# Altium schematic symbol library linux_coreSCHLIB.SchLib: 21 symbols
Pins are listed as number, name and electrical type; pins without a type are passive.

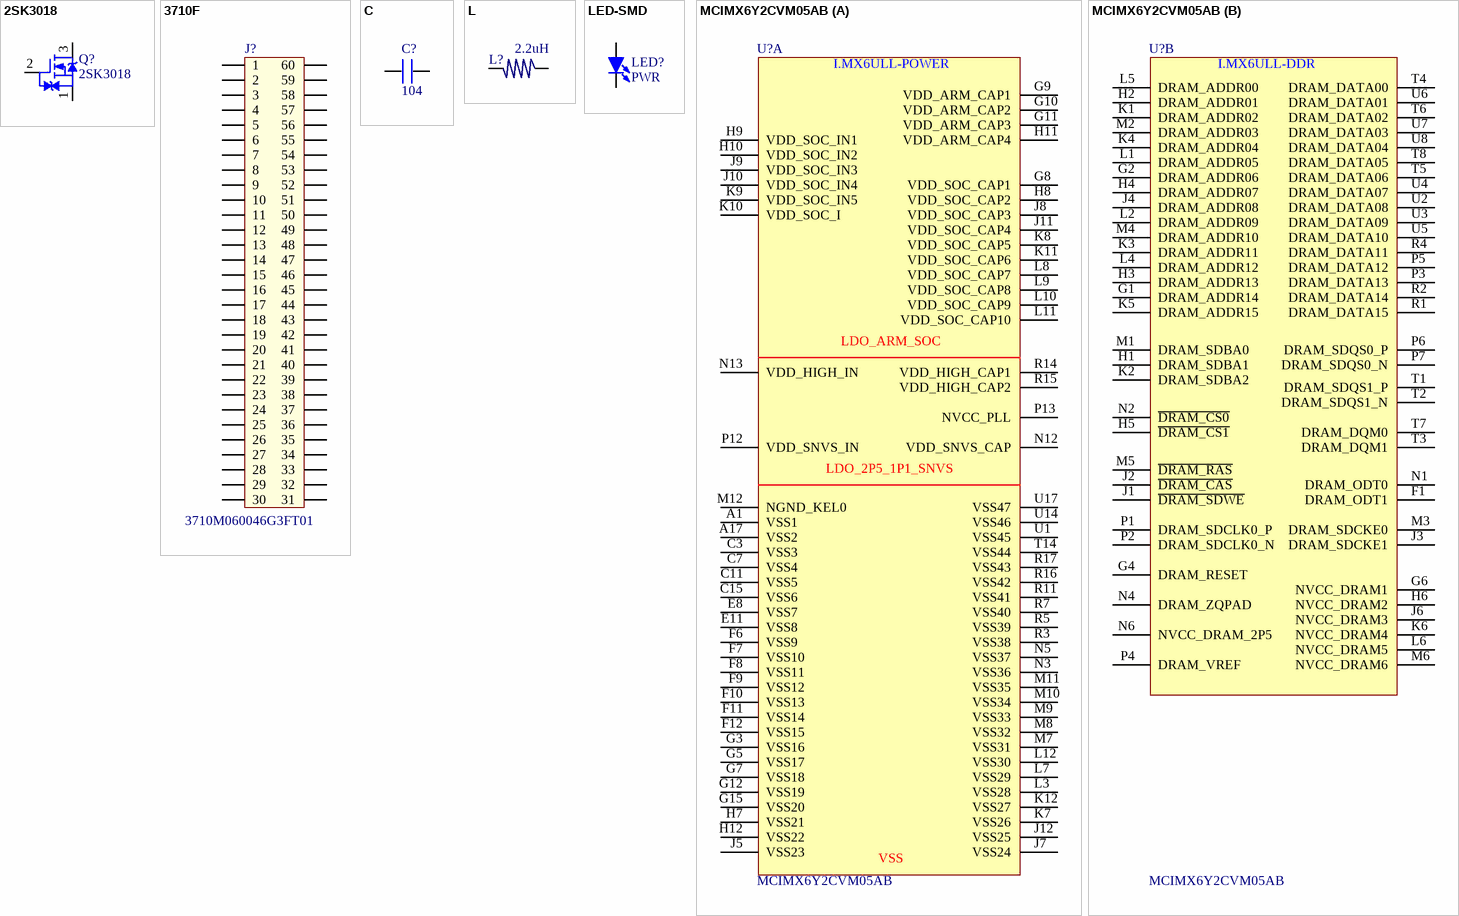
[diagram p0: symbols 2SK3018 to MCIMX6Y2CVM05AB]

## 2SK3018
designator Q?
N沟场效应管  30V,0.1A; 版权归属: 源创客; BOM名称: N沟场效应管; 学习资源: www.ooocke.com
footprint SC70-3L (2x2.2x0.9mm(长宽高))
footprint SC70-3M (2x2.2x0.9mm(长宽高))
footprint SC70-3N (2x2.2x0.9mm(长宽高))
pins: 1 S, 2 G, 3 D

## 3710F
designator J?, comment 3710M060046G3FT01
3710F060046G3FT01
footprint 3710F060046G3FT01 (PIN:0.8mm;SOP;FEMALE)
pins: 1, 2, 3, 4, 5, 6, 7, 8, 9, 10, 11, 12, 13, 14, 15, 16, 17, 18, 19, 20, 21, 22, 23, 24, 25, 26, 27, 28, 29, 30, 31, 32, 33, 34, 35, 36, 37, 38, 39, 40, 41, 42, 43, 44, 45, 46, 47, 48, 49, 50, 51, 52, 53, 54, 55, 56, 57, 58, 59, 60

## C
designator C?, comment 104
footprint 0603P
footprint 0805
footprint CC5.08 (CAP0.1)
footprint CC4.572 (222/332)
footprint 1206
footprint 1210
footprint CC6.096
footprint CC7.62
footprint CVAR (4MM*6.6MM)
footprint 0402
footprint C0402
footprint C 0402
pins: 1, 2

## L
designator L?, comment 2.2uH
footprint L3A (L)
footprint L4.7
footprint L_USER (SELF_DEF)
footprint L10 (10mH)
footprint SMD7850
footprint 0805
footprint 1206
footprint L_SOPL (L_LARGE)
footprint L_CD43 (4mm*4mm)
footprint 0603P
footprint L  9mm x20mm
footprint Lx2 DIP (L=17.5mm  W=15mm  R= 8mm)
footprint NR3015 (3mm*3mm*1.5mm(长*宽*高）)
pins: 1, 2

## LED-SMD
designator LED?, comment PWR
贴片LED; 版权归属: 源创客; BOM名称: 贴片LED; 学习资源: www.ooocke.com
footprint LED 0603W (白色0603LED)
footprint LED 0603R (红色0603LED)
footprint LED 0603B (蓝色0603LED)
footprint LED 0603G (绿色0603LED)
footprint LED 0603Y (黄色0603LED)
footprint LED 0805G (绿色0805LED)
footprint LED 0805R (红色0805LED)
footprint LED 0805B (蓝色0805LED)
footprint LED 0805Y (黄色0805LED)
footprint LED 3528 (白色3528LED)
footprint LED 1206G (绿色1206LED)
footprint LED 5730-V (紫色5730LED)
footprint LED 1206Y (黄色1206LED)
footprint LED 0805W (白色0805LED)
footprint LED 1206B (蓝色1206LED)
footprint LED 1206W (白色1206LED)
footprint LED 1206R (红色1206LED)
pins: 1 A, 2 K

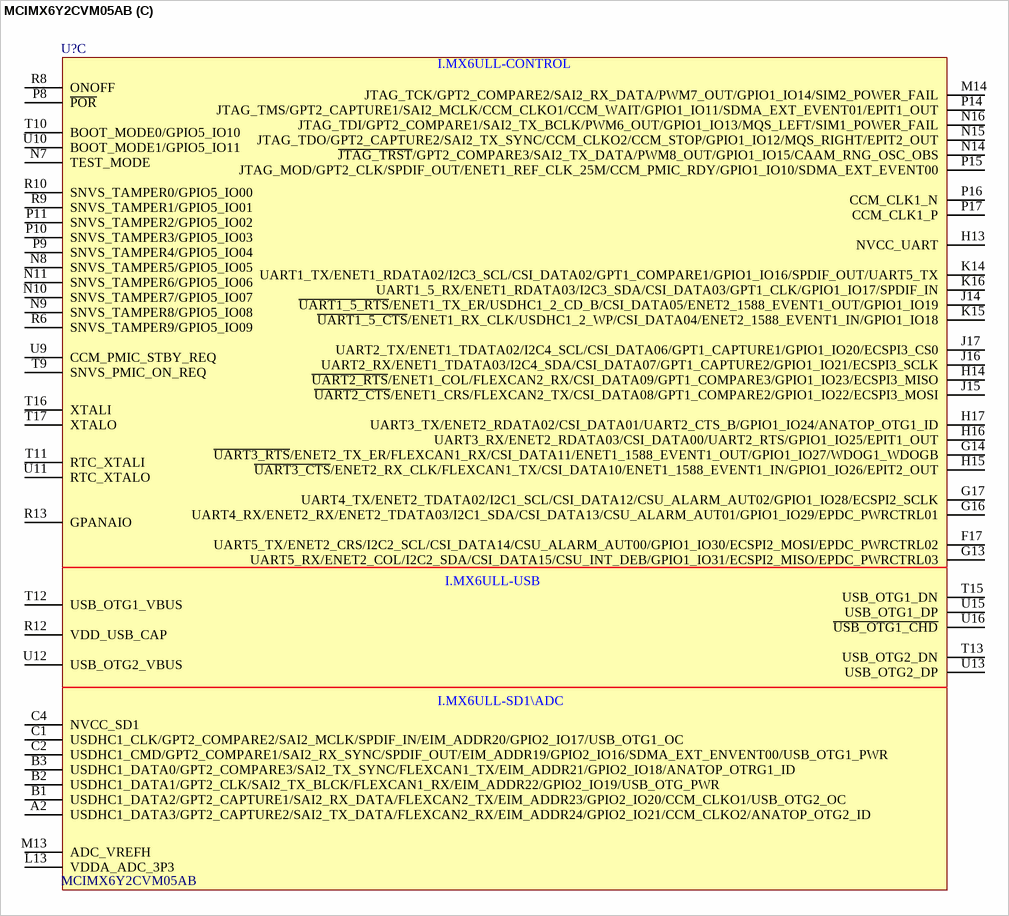
[diagram p1: symbol MCIMX6Y2CVM05AB]

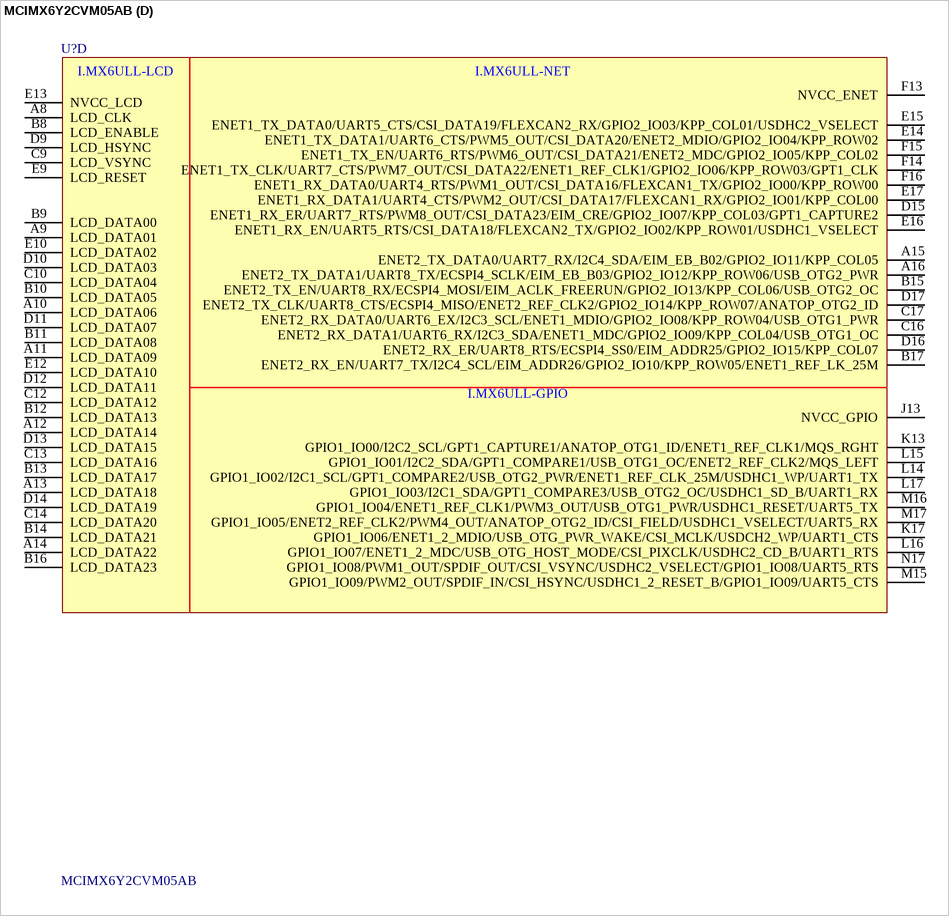
[diagram p2: symbol MCIMX6Y2CVM05AB]

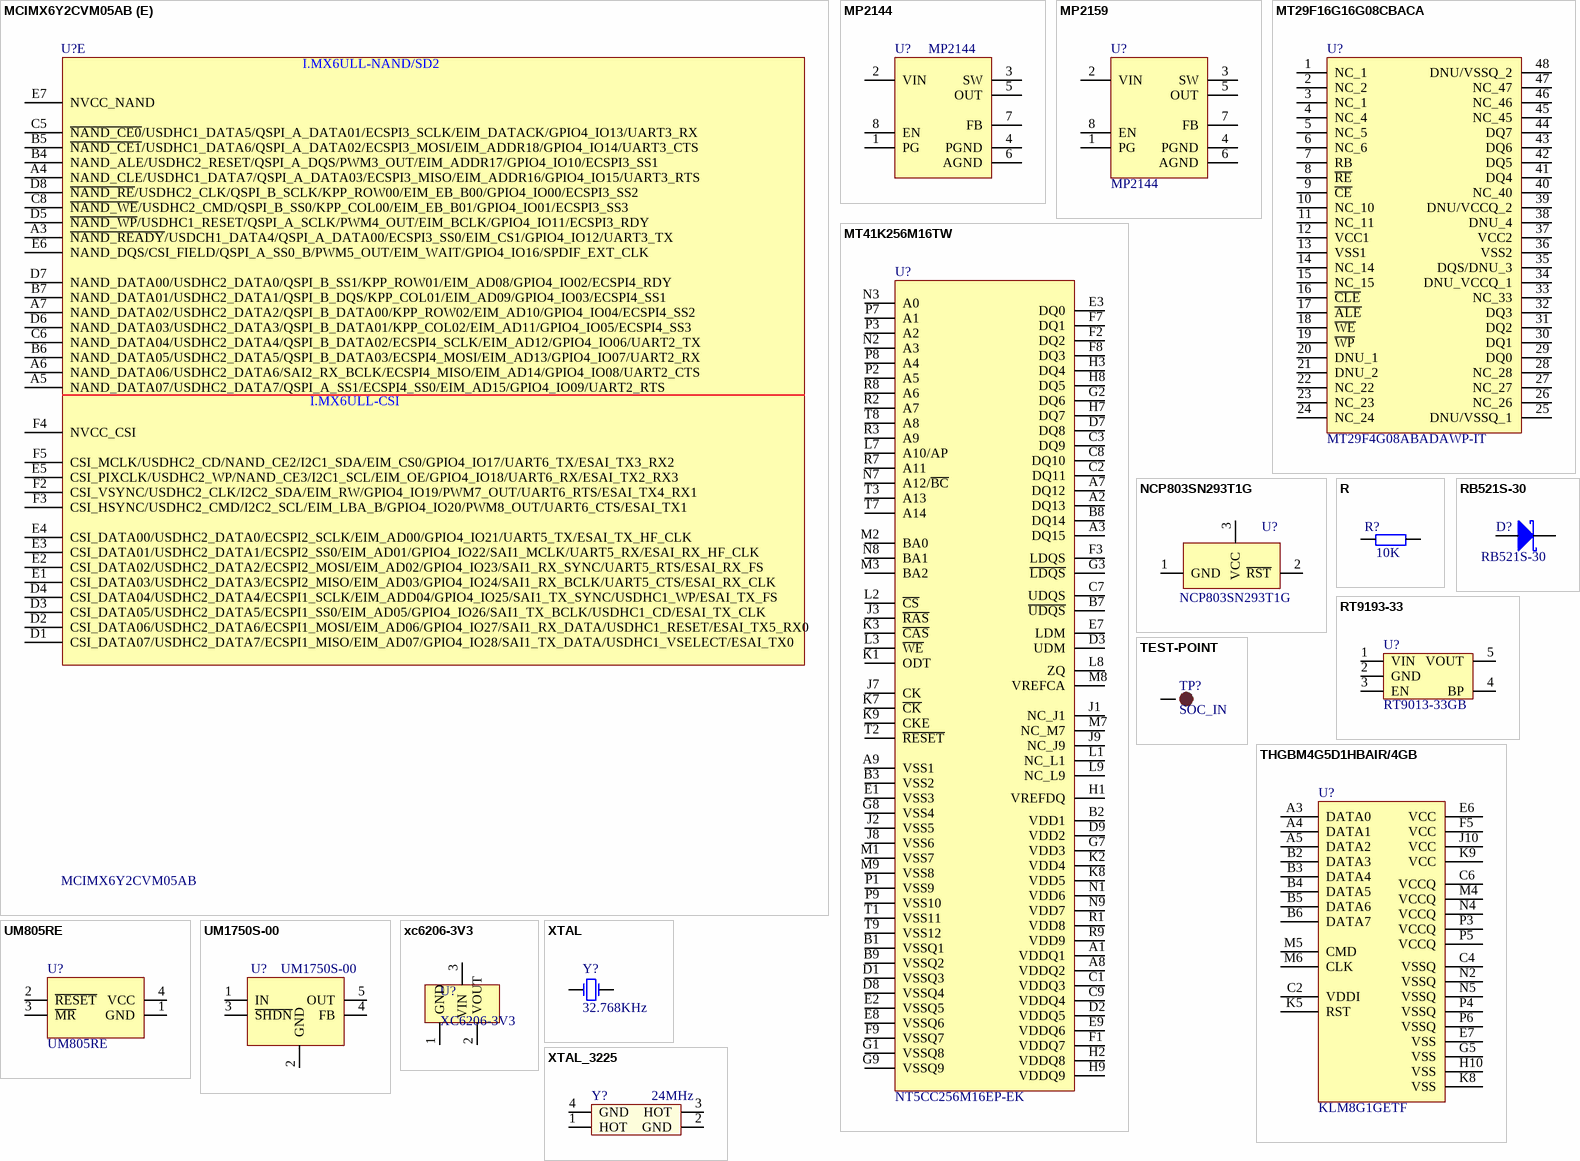
[diagram p3: symbols MCIMX6Y2CVM05AB to XTAL_3225]

## MCIMX6Y2CVM05AB
designator U?
footprint BGA289C80P17X17_1400X1400X132 (BGA, 289-Leads, Body 14.00x14.00mmx1.32mm, Pitch 0.80mm)
part A pins: A1 VSS1, A17 VSS2, C3 VSS3, C7 VSS4, C11 VSS5, C15 VSS6, E8 VSS7, E11 VSS8, F6 VSS9, F7 VSS10, F8 VSS11, F9 VSS12, F10 VSS13, F11 VSS14, F12 VSS15, G3 VSS16, G5 VSS17, G7 VSS18, G8 VDD_SOC_CAP1, G9 VDD_ARM_CAP1, G10 VDD_ARM_CAP2, G11 VDD_ARM_CAP3, G12 VSS19, G15 VSS20, H7 VSS21, H8 VDD_SOC_CAP2, H9 VDD_SOC_IN1, H10 VDD_SOC_IN2, H11 VDD_ARM_CAP4, H12 VSS22, J5 VSS23, J7 VSS24, J8 VDD_SOC_CAP3, J9 VDD_SOC_IN3, J10 VDD_SOC_IN4, J11 VDD_SOC_CAP4, J12 VSS25, K7 VSS26, K8 VDD_SOC_CAP5, K9 VDD_SOC_IN5, K10 VDD_SOC_I, K11 VDD_SOC_CAP6, K12 VSS27, L3 VSS28, L7 VSS29, L8 VDD_SOC_CAP7, L9 VDD_SOC_CAP8, L10 VDD_SOC_CAP9, L11 VDD_SOC_CAP10, L12 VSS30, M7 VSS31, M8 VSS32, M9 VSS33, M10 VSS34, M11 VSS35, M12 NGND_KEL0, N3 VSS36, N5 VSS37, N12 VDD_SNVS_CAP, N13 VDD_HIGH_IN, P12 VDD_SNVS_IN, P13 NVCC_PLL, R3 VSS38, R5 VSS39, R7 VSS40, R11 VSS41, R14 VDD_HIGH_CAP1, R15 VDD_HIGH_CAP2, R16 VSS42, R17 VSS43, T14 VSS44, U1 VSS45, U14 VSS46, U17 VSS47
part B pins: F1 DRAM_ODT1, G1 DRAM_ADDR14, G2 DRAM_ADDR06, G4 DRAM_RESET, G6 NVCC_DRAM1, H1 DRAM_SDBA1, H2 DRAM_ADDR01, H3 DRAM_ADDR13, H4 DRAM_ADDR07, H5 ~{DRAM_CS1}, H6 NVCC_DRAM2, J1 ~{DRAM_SDWE}, J2 ~{DRAM_CAS}, J3 DRAM_SDCKE1, J4 DRAM_ADDR08, J6 NVCC_DRAM3, K1 DRAM_ADDR02, K2 DRAM_SDBA2, K3 DRAM_ADDR11, K4 DRAM_ADDR04, K5 DRAM_ADDR15, K6 NVCC_DRAM4, L1 DRAM_ADDR05, L2 DRAM_ADDR09, L4 DRAM_ADDR12, L5 DRAM_ADDR00, L6 NVCC_DRAM5, M1 DRAM_SDBA0, M2 DRAM_ADDR03, M3 DRAM_SDCKE0, M4 DRAM_ADDR10, M5 ~{DRAM_RAS}, M6 NVCC_DRAM6, N1 DRAM_ODT0, N2 ~{DRAM_CS0}, N4 DRAM_ZQPAD, N6 NVCC_DRAM_2P5, P1 DRAM_SDCLK0_P, P2 DRAM_SDCLK0_N, P3 DRAM_DATA13, P4 DRAM_VREF, P5 DRAM_DATA12, P6 DRAM_SDQS0_P, P7 DRAM_SDQS0_N, R1 DRAM_DATA15, R2 DRAM_DATA14, R4 DRAM_DATA11, T1 DRAM_SDQS1_P, T2 DRAM_SDQS1_N, T3 DRAM_DQM1, T4 DRAM_DATA00, T5 DRAM_DATA06, T6 DRAM_DATA02, T7 DRAM_DQM0, T8 DRAM_DATA05, U2 DRAM_DATA08, U3 DRAM_DATA09, U4 DRAM_DATA07, U5 DRAM_DATA10, U6 DRAM_DATA01, U7 DRAM_DATA03, U8 DRAM_DATA04
part C pins: A2 USDHC1_DATA3/GPT2_CAPTURE2/SAI2_TX_DATA/FLEXCAN2_RX/EIM_ADDR24/GPIO2_IO21/CCM_CLKO2/ANATOP_OTG2_ID, B1 USDHC1_DATA2/GPT2_CAPTURE1/SAI2_RX_DATA/FLEXCAN2_TX/EIM_ADDR23/GPIO2_IO20/CCM_CLKO1/USB_OTG2_OC, B2 USDHC1_DATA1/GPT2_CLK/SAI2_TX_BLCK/FLEXCAN1_RX/EIM_ADDR22/GPIO2_IO19/USB_OTG_PWR, B3 USDHC1_DATA0/GPT2_COMPARE3/SAI2_TX_SYNC/FLEXCAN1_TX/EIM_ADDR21/GPIO2_IO18/ANATOP_OTRG1_ID, C1 USDHC1_CLK/GPT2_COMPARE2/SAI2_MCLK/SPDIF_IN/EIM_ADDR20/GPIO2_IO17/USB_OTG1_OC, C2 USDHC1_CMD/GPT2_COMPARE1/SAI2_RX_SYNC/SPDIF_OUT/EIM_ADDR19/GPIO2_IO16/SDMA_EXT_ENVENT00/USB_OTG1_PWR, C4 NVCC_SD1, F17 UART5_TX/ENET2_CRS/I2C2_SCL/CSI_DATA14/CSU_ALARM_AUT00/GPIO1_IO30/ECSPI2_MOSI/EPDC_PWRCTRL02, G13 UART5_RX/ENET2_COL/I2C2_SDA/CSI_DATA15/CSU_INT_DEB/GPIO1_IO31/ECSPI2_MISO/EPDC_PWRCTRL03, G14 ~{UART3_RTS}/ENET2_TX_ER/FLEXCAN1_RX/CSI_DATA11/ENET1_1588_EVENT1_OUT/GPIO1_IO27/WDOG1_WDOGB, G16 UART4_RX/ENET2_RX/ENET2_TDATA03/I2C1_SDA/CSI_DATA13/CSU_ALARM_AUT01/GPIO1_IO29/EPDC_PWRCTRL01, G17 UART4_TX/ENET2_TDATA02/I2C1_SCL/CSI_DATA12/CSU_ALARM_AUT02/GPIO1_IO28/ECSPI2_SCLK, H13 NVCC_UART, H14 ~{UART2_RTS}/ENET1_COL/FLEXCAN2_RX/CSI_DATA09/GPT1_COMPARE3/GPIO1_IO23/ECSPI3_MISO, H15 ~{UART3_CTS}/ENET2_RX_CLK/FLEXCAN1_TX/CSI_DATA10/ENET1_1588_EVENT1_IN/GPIO1_IO26/EPIT2_OUT, H16 UART3_RX/ENET2_RDATA03/CSI_DATA00/UART2_RTS/GPIO1_IO25/EPIT1_OUT, H17 UART3_TX/ENET2_RDATA02/CSI_DATA01/UART2_CTS_B/GPIO1_IO24/ANATOP_OTG1_ID, J14 ~{UART1_5_}~{RTS}/ENET1_TX_ER/USDHC1_2_CD_B/CSI_DATA05/ENET2_1588_EVENT1_OUT/GPIO1_IO19, J15 ~{UART2_CTS}/ENET1_CRS/FLEXCAN2_TX/CSI_DATA08/GPT1_COMPARE2/GPIO1_IO22/ECSPI3_MOSI, J16 UART2_RX/ENET1_TDATA03/I2C4_SDA/CSI_DATA07/GPT1_CAPTURE2/GPIO1_IO21/ECSPI3_SCLK, J17 UART2_TX/ENET1_TDATA02/I2C4_SCL/CSI_DATA06/GPT1_CAPTURE1/GPIO1_IO20/ECSPI3_CS0, K14 UART1_TX/ENET1_RDATA02/I2C3_SCL/CSI_DATA02/GPT1_COMPARE1/GPIO1_IO16/SPDIF_OUT/UART5_TX, K15 ~{UART1_5_CTS}/ENET1_RX_CLK/USDHC1_2_WP/CSI_DATA04/ENET2_1588_EVENT1_IN/GPIO1_IO18, K16 UART1_5_RX/ENET1_RDATA03/I2C3_SDA/CSI_DATA03/GPT1_CLK/GPIO1_IO17/SPDIF_IN, L13 VDDA_ADC_3P3, M13 ADC_VREFH, M14 JTAG_TCK/GPT2_COMPARE2/SAI2_RX_DATA/PWM7_OUT/GPIO1_IO14/SIM2_POWER_FAIL, N7 TEST_MODE, N8 SNVS_TAMPER5/GPIO5_IO05, N9 SNVS_TAMPER8/GPIO5_IO08, N10 SNVS_TAMPER7/GPIO5_IO07, N11 SNVS_TAMPER6/GPIO5_IO06, N14 ~{JTAG_TRST}/GPT2_COMPARE3/SAI2_TX_DATA/PWM8_OUT/GPIO1_IO15/CAAM_RNG_OSC_OBS, N15 JTAG_TDO/GPT2_CAPTURE2/SAI2_TX_SYNC/CCM_CLKO2/CCM_STOP/GPIO1_IO12/MQS_RIGHT/EPIT2_OUT, N16 JTAG_TDI/GPT2_COMPARE1/SAI2_TX_BCLK/PWM6_OUT/GPIO1_IO13/MQS_LEFT/SIM1_POWER_FAIL, P8 ~{POR}, P9 SNVS_TAMPER4/GPIO5_IO04, P10 SNVS_TAMPER3/GPIO5_IO03, P11 SNVS_TAMPER2/GPIO5_IO02, P14 JTAG_TMS/GPT2_CAPTURE1/SAI2_MCLK/CCM_CLKO1/CCM_WAIT/GPIO1_IO11/SDMA_EXT_EVENT01/EPIT1_OUT, P15 JTAG_MOD/GPT2_CLK/SPDIF_OUT/ENET1_REF_CLK_25M/CCM_PMIC_RDY/GPIO1_IO10/SDMA_EXT_EVENT00, P16 CCM_CLK1_N, P17 CCM_CLK1_P, R6 SNVS_TAMPER9/GPIO5_IO09, R8 ONOFF, R9 SNVS_TAMPER1/GPIO5_IO01, R10 SNVS_TAMPER0/GPIO5_IO00, R12 VDD_USB_CAP, R13 GPANAIO, T9 SNVS_PMIC_ON_REQ, T10 BOOT_MODE0/GPIO5_IO10, T11 RTC_XTALI, T12 USB_OTG1_VBUS, T13 USB_OTG2_DN, T15 USB_OTG1_DN, T16 XTALI, T17 XTALO, U9 CCM_PMIC_STBY_REQ, U10 BOOT_MODE1/GPIO5_IO11, U11 RTC_XTALO, U12 USB_OTG2_VBUS, U13 USB_OTG2_DP, U15 USB_OTG1_DP, U16 ~{USB_OTG1_CHD}
part D pins: A8 LCD_CLK, A9 LCD_DATA01, A10 LCD_DATA06, A11 LCD_DATA09, A12 LCD_DATA14, A13 LCD_DATA18, A14 LCD_DATA22, A15 ENET2_TX_DATA0/UART7_RX/I2C4_SDA/EIM_EB_B02/GPIO2_IO11/KPP_COL05, A16 ENET2_TX_DATA1/UART8_TX/ECSPI4_SCLK/EIM_EB_B03/GPIO2_IO12/KPP_ROW06/USB_OTG2_PWR, B8 LCD_ENABLE, B9 LCD_DATA00, B10 LCD_DATA05, B11 LCD_DATA08, B12 LCD_DATA13, B13 LCD_DATA17, B14 LCD_DATA21, B15 ENET2_TX_EN/UART8_RX/ECSPI4_MOSI/EIM_ACLK_FREERUN/GPIO2_IO13/KPP_COL06/USB_OTG2_OC, B16 LCD_DATA23, B17 ENET2_RX_EN/UART7_TX/I2C4_SCL/EIM_ADDR26/GPIO2_IO10/KPP_ROW05/ENET1_REF_LK_25M, C9 LCD_VSYNC, C10 LCD_DATA04, C12 LCD_DATA12, C13 LCD_DATA16, C14 LCD_DATA20, C16 ENET2_RX_DATA1/UART6_RX/I2C3_SDA/ENET1_MDC/GPIO2_IO09/KPP_COL04/USB_OTG1_OC, C17 ENET2_RX_DATA0/UART6_EX/I2C3_SCL/ENET1_MDIO/GPIO2_IO08/KPP_ROW04/USB_OTG1_PWR, D9 LCD_HSYNC, D10 LCD_DATA03, D11 LCD_DATA07, D12 LCD_DATA11, D13 LCD_DATA15, D14 LCD_DATA19, D15 ENET1_RX_ER/UART7_RTS/PWM8_OUT/CSI_DATA23/EIM_CRE/GPIO2_IO07/KPP_COL03/GPT1_CAPTURE2, D16 ENET2_RX_ER/UART8_RTS/ECSPI4_SS0/EIM_ADDR25/GPIO2_IO15/KPP_COL07, D17 ENET2_TX_CLK/UART8_CTS/ECSPI4_MISO/ENET2_REF_CLK2/GPIO2_IO14/KPP_ROW07/ANATOP_OTG2_ID, E9 LCD_RESET, E10 LCD_DATA02, E12 LCD_DATA10, E13 NVCC_LCD, E14 ENET1_TX_DATA1/UART6_CTS/PWM5_OUT/CSI_DATA20/ENET2_MDIO/GPIO2_IO04/KPP_ROW02, E15 ENET1_TX_DATA0/UART5_CTS/CSI_DATA19/FLEXCAN2_RX/GPIO2_IO03/KPP_COL01/USDHC2_VSELECT, E16 ENET1_RX_EN/UART5_RTS/CSI_DATA18/FLEXCAN2_TX/GPIO2_IO02/KPP_ROW01/USDHC1_VSELECT, E17 ENET1_RX_DATA1/UART4_CTS/PWM2_OUT/CSI_DATA17/FLEXCAN1_RX/GPIO2_IO01/KPP_COL00, F13 NVCC_ENET, F14 ENET1_TX_CLK/UART7_CTS/PWM7_OUT/CSI_DATA22/ENET1_REF_CLK1/GPIO2_IO06/KPP_ROW03/GPT1_CLK, F15 ENET1_TX_EN/UART6_RTS/PWM6_OUT/CSI_DATA21/ENET2_MDC/GPIO2_IO05/KPP_COL02, F16 ENET1_RX_DATA0/UART4_RTS/PWM1_OUT/CSI_DATA16/FLEXCAN1_TX/GPIO2_IO00/KPP_ROW00, J13 NVCC_GPIO, K13 GPIO1_IO00/I2C2_SCL/GPT1_CAPTURE1/ANATOP_OTG1_ID/ENET1_REF_CLK1/MQS_RGHT, K17 GPIO1_IO06/ENET1_2_MDIO/USB_OTG_PWR_WAKE/CSI_MCLK/USDCH2_WP/UART1_CTS, L14 GPIO1_IO02/I2C1_SCL/GPT1_COMPARE2/USB_OTG2_PWR/ENET1_REF_CLK_25M/USDHC1_WP/UART1_TX, L15 GPIO1_IO01/I2C2_SDA/GPT1_COMPARE1/USB_OTG1_OC/ENET2_REF_CLK2/MQS_LEFT, L16 GPIO1_IO07/ENET1_2_MDC/USB_OTG_HOST_MODE/CSI_PIXCLK/USDHC2_CD_B/UART1_RTS, L17 GPIO1_IO03/I2C1_SDA/GPT1_COMPARE3/USB_OTG2_OC/USDHC1_SD_B/UART1_RX, M15 GPIO1_IO09/PWM2_OUT/SPDIF_IN/CSI_HSYNC/USDHC1_2_RESET_B/GPIO1_IO09/UART5_CTS, M16 GPIO1_IO04/ENET1_REF_CLK1/PWM3_OUT/USB_OTG1_PWR/USDHC1_RESET/UART5_TX, M17 GPIO1_IO05/ENET2_REF_CLK2/PWM4_OUT/ANATOP_OTG2_ID/CSI_FIELD/USDHC1_VSELECT/UART5_RX, N17 GPIO1_IO08/PWM1_OUT/SPDIF_OUT/CSI_VSYNC/USDHC2_VSELECT/GPIO1_IO08/UART5_RTS
part E pins: A3 ~{NAND_READY}/USDCH1_DATA4/QSPI_A_DATA00/ECSPI3_SS0/EIM_CS1/GPIO4_IO12/UART3_TX, A4 NAND_CLE/USDHC1_DATA7/QSPI_A_DATA03/ECSPI3_MISO/EIM_ADDR16/GPIO4_IO15/UART3_RTS, A5 NAND_DATA07/USDHC2_DATA7/QSPI_A_SS1/ECSPI4_SS0/EIM_AD15/GPIO4_IO09/UART2_RTS, A6 NAND_DATA06/USDHC2_DATA6/SAI2_RX_BCLK/ECSPI4_MISO/EIM_AD14/GPIO4_IO08/UART2_CTS, A7 NAND_DATA02/USDHC2_DATA2/QSPI_B_DATA00/KPP_ROW02/EIM_AD10/GPIO4_IO04/ECSPI4_SS2, B4 NAND_ALE/USDHC2_RESET/QSPI_A_DQS/PWM3_OUT/EIM_ADDR17/GPIO4_IO10/ECSPI3_SS1, B5 ~{NAND_CE1}/USDHC1_DATA6/QSPI_A_DATA02/ECSPI3_MOSI/EIM_ADDR18/GPIO4_IO14/UART3_CTS, B6 NAND_DATA05/USDHC2_DATA5/QSPI_B_DATA03/ECSPI4_MOSI/EIM_AD13/GPIO4_IO07/UART2_RX, B7 NAND_DATA01/USDHC2_DATA1/QSPI_B_DQS/KPP_COL01/EIM_AD09/GPIO4_IO03/ECSPI4_SS1, C5 ~{NAND_CE0}/USDHC1_DATA5/QSPI_A_DATA01/ECSPI3_SCLK/EIM_DATACK/GPIO4_IO13/UART3_RX, C6 NAND_DATA04/USDHC2_DATA4/QSPI_B_DATA02/ECSPI4_SCLK/EIM_AD12/GPIO4_IO06/UART2_TX, C8 ~{NAND_WE}/USDHC2_CMD/QSPI_B_SS0/KPP_COL00/EIM_EB_B01/GPIO4_IO01/ECSPI3_SS3, D1 CSI_DATA07/USDHC2_DATA7/ECSPI1_MISO/EIM_AD07/GPIO4_IO28/SAI1_TX_DATA/USDHC1_VSELECT/ESAI_TX0, D2 CSI_DATA06/USDHC2_DATA6/ECSPI1_MOSI/EIM_AD06/GPIO4_IO27/SAI1_RX_DATA/USDHC1_RESET/ESAI_TX5_RX0, D3 CSI_DATA05/USDHC2_DATA5/ECSPI1_SS0/EIM_AD05/GPIO4_IO26/SAI1_TX_BCLK/USDHC1_CD/ESAI_TX_CLK, D4 CSI_DATA04/USDHC2_DATA4/ECSPI1_SCLK/EIM_ADD04/GPIO4_IO25/SAI1_TX_SYNC/USDHC1_WP/ESAI_TX_FS, D5 ~{NAND_WP}/USDHC1_RESET/QSPI_A_SCLK/PWM4_OUT/EIM_BCLK/GPIO4_IO11/ECSPI3_RDY, D6 NAND_DATA03/USDHC2_DATA3/QSPI_B_DATA01/KPP_COL02/EIM_AD11/GPIO4_IO05/ECSPI4_SS3, D7 NAND_DATA00/USDHC2_DATA0/QSPI_B_SS1/KPP_ROW01/EIM_AD08/GPIO4_IO02/ECSPI4_RDY, D8 ~{NAND_RE}/USDHC2_CLK/QSPI_B_SCLK/KPP_ROW00/EIM_EB_B00/GPIO4_IO00/ECSPI3_SS2, E1 CSI_DATA03/USDHC2_DATA3/ECSPI2_MISO/EIM_AD03/GPIO4_IO24/SAI1_RX_BCLK/UART5_CTS/ESAI_RX_CLK, E2 CSI_DATA02/USDHC2_DATA2/ECSPI2_MOSI/EIM_AD02/GPIO4_IO23/SAI1_RX_SYNC/UART5_RTS/ESAI_RX_FS, E3 CSI_DATA01/USDHC2_DATA1/ECSPI2_SS0/EIM_AD01/GPIO4_IO22/SAI1_MCLK/UART5_RX/ESAI_RX_HF_CLK, E4 CSI_DATA00/USDHC2_DATA0/ECSPI2_SCLK/EIM_AD00/GPIO4_IO21/UART5_TX/ESAI_TX_HF_CLK, E5 CSI_PIXCLK/USDHC2_WP/NAND_CE3/I2C1_SCL/EIM_OE/GPIO4_IO18/UART6_RX/ESAI_TX2_RX3, E6 NAND_DQS/CSI_FIELD/QSPI_A_SS0_B/PWM5_OUT/EIM_WAIT/GPIO4_IO16/SPDIF_EXT_CLK, E7 NVCC_NAND, F2 CSI_VSYNC/USDHC2_CLK/I2C2_SDA/EIM_RW/GPIO4_IO19/PWM7_OUT/UART6_RTS/ESAI_TX4_RX1, F3 CSI_HSYNC/USDHC2_CMD/I2C2_SCL/EIM_LBA_B/GPIO4_IO20/PWM8_OUT/UART6_CTS/ESAI_TX1, F4 NVCC_CSI, F5 CSI_MCLK/USDHC2_CD/NAND_CE2/I2C1_SDA/EIM_CS0/GPIO4_IO17/UART6_TX/ESAI_TX3_RX2
part A text: I.MX6ULL-POWER; LDO_ARM_SOC; LDO_2P5_1P1_SNVS; VSS
part B text: I.MX6ULL-DDR
part C text: I.MX6ULL-CONTROL; I.MX6ULL-USB; I.MX6ULL-SD1\ADC
part D text: I.MX6ULL-LCD; I.MX6ULL-NET; I.MX6ULL-GPIO
part E text: I.MX6ULL-NAND/SD2; I.MX6ULL-CSI

## MP2144
designator U?
footprint TSOT23-8
footprint SOT23-8L
pins: 1 PG, 2 VIN, 3 SW, 4 PGND, 5 OUT, 6 AGND, 7 FB, 8 EN

## MP2159
designator U?, comment MP2144
footprint TSOT23-8
footprint SOT23-8L
pins: 1 PG, 2 VIN, 3 SW, 4 PGND, 5 OUT, 6 AGND, 7 FB, 8 EN

## MT29F16G16G08CBACA
designator U?, comment MT29F4G08ABADAWP-IT
footprint TSOP48
pins: 1 NC_1, 2 NC_2, 3 NC_1, 4 NC_4, 5 NC_5, 6 NC_6, 7 RB, 8 ~{RE}, 9 ~{CE}, 10 NC_10, 11 NC_11, 12 VCC1, 13 VSS1, 14 NC_14, 15 NC_15, 16 ~{CLE}, 17 ~{ALE}, 18 ~{WE}, 19 ~{WP}, 20 DNU_1, 21 DNU_2, 22 NC_22, 23 NC_23, 24 NC_24, 25 DNU/VSSQ_1, 26 NC_26, 27 NC_27, 28 NC_28, 29 DQ0, 30 DQ1, 31 DQ2, 32 DQ3, 33 NC_33, 34 DNU_VCCQ_1, 35 DQS/DNU_3, 36 VSS2, 37 VCC2, 38 DNU_4, 39 DNU/VCCQ_2, 40 NC_40, 41 DQ4, 42 DQ5, 43 DQ6, 44 DQ7, 45 NC_45, 46 NC_46, 47 NC_47, 48 DNU/VSSQ_2

## MT41K256M16TW
designator U?, comment NT5CC256M16EP-EK
footprint BGA96 (BGA, 96-Leads, Body 8.00x14.00mmx1.20mm, Pitch 0.80mm)
pins: A1 VDDQ1, A2 DQ13, A3 DQ15, A7 DQ12, A8 VDDQ2, A9 VSS1, B1 VSSQ1, B2 VDD1, B3 VSS2, B7 ~{UDQS}, B8 DQ14, B9 VSSQ2, C1 VDDQ3, C2 DQ11, C3 DQ9, C7 UDQS, C8 DQ10, C9 VDDQ4, D1 VSSQ3, D2 VDDQ5, D3 UDM, D7 DQ8, D8 VSSQ4, D9 VDD2, E1 VSS3, E2 VSSQ5, E3 DQ0, E7 LDM, E8 VSSQ6, E9 VDDQ6, F1 VDDQ7, F2 DQ2, F3 LDQS, F7 DQ1, F8 DQ3, F9 VSSQ7, G1 VSSQ8, G2 DQ6, G3 ~{LDQS}, G7 VDD3, G8 VSS4, G9 VSSQ9, H1 VREFDQ, H2 VDDQ8, H3 DQ4, H7 DQ7, H8 DQ5, H9 VDDQ9, J1 NC_J1, J2 VSS5, J3 ~{RAS}, J7 CK, J8 VSS6, J9 NC_J9, K1 ODT, K2 VDD4, K3 ~{CAS}, K7 ~{CK}, K8 VDD5, K9 CKE, L1 NC_L1, L2 ~{CS}, L3 ~{WE}, L7 A10/AP, L8 ZQ, L9 NC_L9, M1 VSS7, M2 BA0, M3 BA2, M7 NC_M7, M8 VREFCA, M9 VSS8, N1 VDD6, N2 A3, N3 A0, N7 A12/~{BC}, N8 BA1, N9 VDD7, P1 VSS9, P2 A5, P3 A2, P7 A1, P8 A4, P9 VSS10, R1 VDD8, R2 A7, R3 A9, R7 A11, R8 A6, R9 VDD9, T1 VSS11, T2 ~{RESET}, T3 A13, T7 A14, T8 A8, T9 VSS12

## NCP803SN293T1G
designator U?
footprint SOT23-3L (3x1.3x1mm(长宽高))
pins: 1 GND, 2 ~{RST}, 3 VCC

## R
designator R?, comment 10K
footprint 0805
footprint 0603P
footprint RL (10o/0.7uH)
footprint R16.0 (RX/1W)
footprint 1206
footprint 1210
footprint R20.0 (RX/2W)
footprint R10.16 (STD)
footprint RLN9 (13.5mm*5.1mm)
footprint 0402
footprint C0402
footprint R0402
footprint R 0402
pins: 1, 2

## RB521S-30
designator D?
footprint EMD2
footprint SOD-523
pins: 1 A, 2 C

## RT9193-33
designator U?, comment RT9013-33GB
3.3V超低压差LDO
footprint SOT23-5L (3x1.6x1.1mm(长宽高))
pins: 1 VIN, 2 GND, 3 EN, 4 BP, 5 VOUT

## TEST-POINT
designator TP?, comment SOC_IN
测试点
footprint TP-1.0 (1.0mm)
footprint TP-1.5 (1.5mm)
pins: 1

## THGBM4G5D1HBAIR/4GB
designator U?, comment KLM8G1GETF
footprint BGA169  EMMC (BGA, 169-Leads, Body 13.0x11.5mm,  Pitch 0.50mm)
pins: A3 DATA0, A4 DATA1, A5 DATA2, B2 DATA3, B3 DATA4, B4 DATA5, B5 DATA6, B6 DATA7, C2 VDDI, C4 VSSQ, C6 VCCQ, E6 VCC, E7 VSS, F5 VCC, G5 VSS, H10 VSS, J10 VCC, K5 RST, K8 VSS, K9 VCC, M4 VCCQ, M5 CMD, M6 CLK, N2 VSSQ, N4 VCCQ, N5 VSSQ, P3 VCCQ, P4 VSSQ, P5 VCCQ, P6 VSSQ

## UM805RE
designator U?
footprint SOT143 (UB805RE)
pins: 1 GND, 2 ~{RESET}, 3 ~{MR}, 4 VCC

## UM1750S-00
designator U?
footprint SOT23-5L (3x1.6x1.1mm(长宽高))
pins: 1 IN, 2 GND, 3 ~{SHDN}, 4 FB, 5 OUT

## xc6206-3V3
designator U?, comment XC6206-3V3
footprint SOT23-3L
pins: 1 GND, 2 VOUT, 3 VIN

## XTAL
designator Y?, comment 32.768KHz
普通晶振; Published: 8-Jun-2000; LatestRevisionDate: 17-Jul-2002; LatestRevisionNote: Re-released for DXP Platform.; Publisher: Altium Limited
footprint XTAL_US
footprint XTAL32
footprint XTAL-3215
pins: 1 OSC1, 2 OSC2

## XTAL_3225
designator Y?, comment 24MHz
3225贴片无源晶振
footprint XTAL-3225
pins: 1 HOT, 2 GND, 3 HOT, 4 GND